# Altium integrated library NSC Switcher.IntLib: 922 symbols (part 23 of 24)
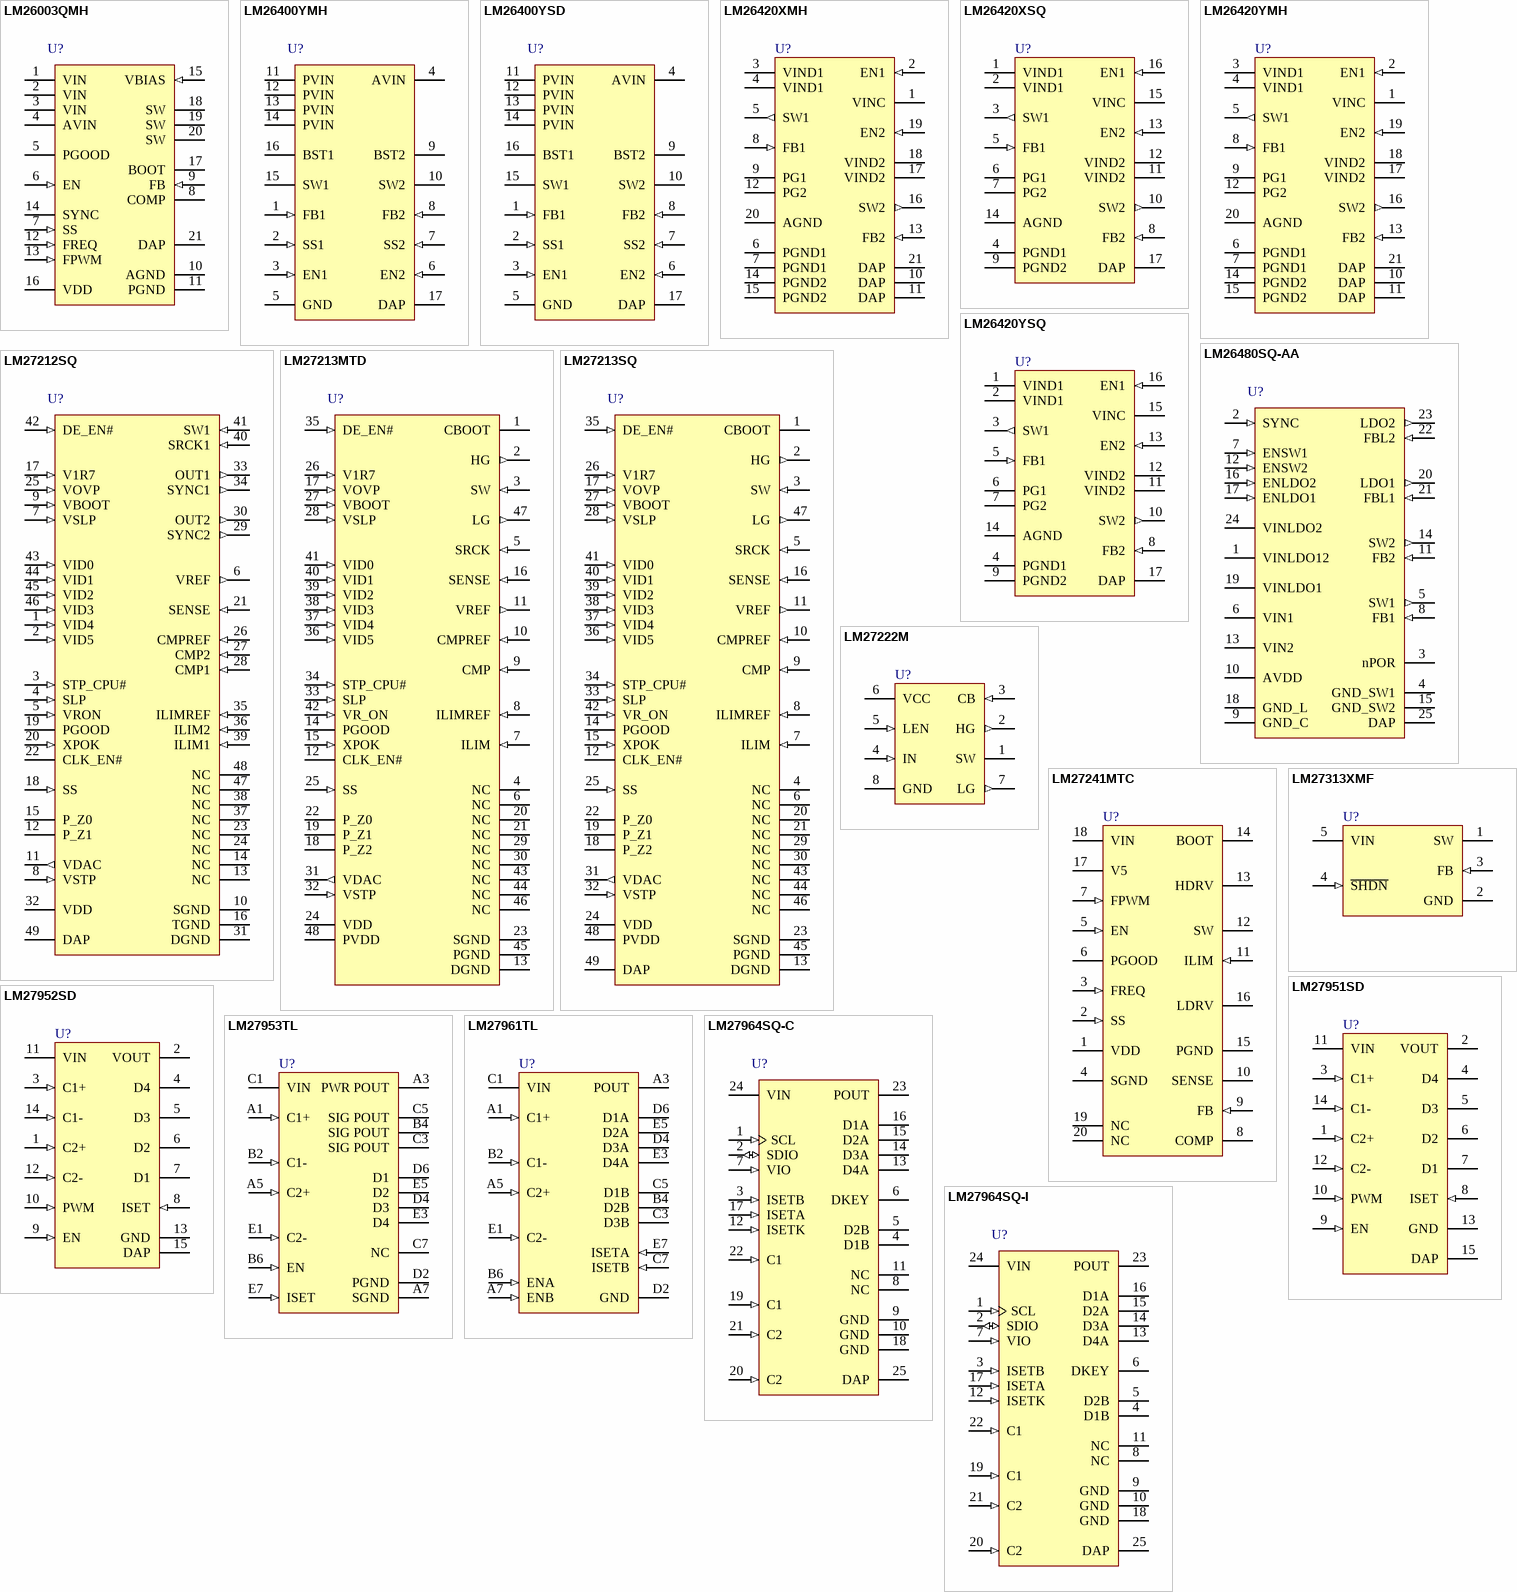
[diagram p50: symbols LM26003QMH to LM27964SQ-I]

## LM27964SQ-C
designator U?
White LED Driver System with I2C Compatible Brightness Control; PartNumber: LM27964SQ-C; Manufacturer: National Semiconductor; CompType: Switcher; PackageTopMarking: NS*UZXYTT*27964-C; FirstPublished: 4-Dec-2008; DatasheetVersion: Aug-2007; PackageVersion: revB, Aug-2003; PackageReference: SQA24A; Publisher: Altium Limited; PackageDescription: LLP, Plastic, Quad, 4 x 4 x 0.8mm Body, 24 Lead, 0.5mm Pitch, No Pullback; RoHS: Y; PinCount: 24; Code_JEDEC: MO-220-WGGD-6; ComponentLink1Description: LM27964 Datasheet; ComponentLink1URL: http://www.national.com/ds/LM/LM27964.pdf; ComponentLink2Description: LM27964 Web Page; ComponentLink2URL: http://www.national.com/pf/LM/LM27964.html; ComponentLink3Description: SQA24A Package Drawing; ComponentLink3URL: http://www.national.com/packaging/folders/sqa24a.html
footprint SQA24A (QFN, 24-Leads, Body 4x4mm, Pitch 0.5mm, NSC Recommended)
pins: 1 SCL (in), 2 SDIO (io), 3 ISETB (in), 4 D1B (oc), 5 D2B (oc), 6 DKEY (oc), 7 VIO (in), 8 NC, 9 GND (power), 10 GND (power), 11 NC, 12 ISETK (in), 13 D4A (oc), 14 D3A (oc), 15 D2A (oc), 16 D1A (oc), 17 ISETA (in), 18 GND (power), 19 C1 (in), 20 C2 (in), 21 C2 (in), 22 C1 (in), 23 POUT (power), 24 VIN (power), 25 DAP (power)

## LM27964SQ-I
designator U?
White LED Driver System with I2C Compatible Brightness Control; PartNumber: LM27964SQ-I; Manufacturer: National Semiconductor; CompType: Switcher; PackageTopMarking: NS*UZXYTT*L27964S; FirstPublished: 4-Dec-2008; DatasheetVersion: Aug-2007; PackageVersion: revB, Aug-2003; PackageReference: SQA24A; Publisher: Altium Limited; PackageDescription: LLP, Plastic, Quad, 4 x 4 x 0.8mm Body, 24 Lead, 0.5mm Pitch, No Pullback; RoHS: Y; PinCount: 24; DigiKeyPartNumber: LM27964SQ-ICT-ND; Code_JEDEC: MO-220-WGGD-6; ComponentLink1Description: LM27964 Datasheet; ComponentLink1URL: http://www.national.com/ds/LM/LM27964.pdf; ComponentLink2Description: LM27964 Web Page; ComponentLink2URL: http://www.national.com/pf/LM/LM27964.html; ComponentLink3Description: SQA24A Package Drawing; ComponentLink3URL: http://www.national.com/packaging/folders/sqa24a.html
footprint SQA24A (QFN, 24-Leads, Body 4x4mm, Pitch 0.5mm, NSC Recommended)
pins: 1 SCL (in), 2 SDIO (io), 3 ISETB (in), 4 D1B (oc), 5 D2B (oc), 6 DKEY (oc), 7 VIO (in), 8 NC, 9 GND (power), 10 GND (power), 11 NC, 12 ISETK (in), 13 D4A (oc), 14 D3A (oc), 15 D2A (oc), 16 D1A (oc), 17 ISETA (in), 18 GND (power), 19 C1 (in), 20 C2 (in), 21 C2 (in), 22 C1 (in), 23 POUT (power), 24 VIN (power), 25 DAP (power)

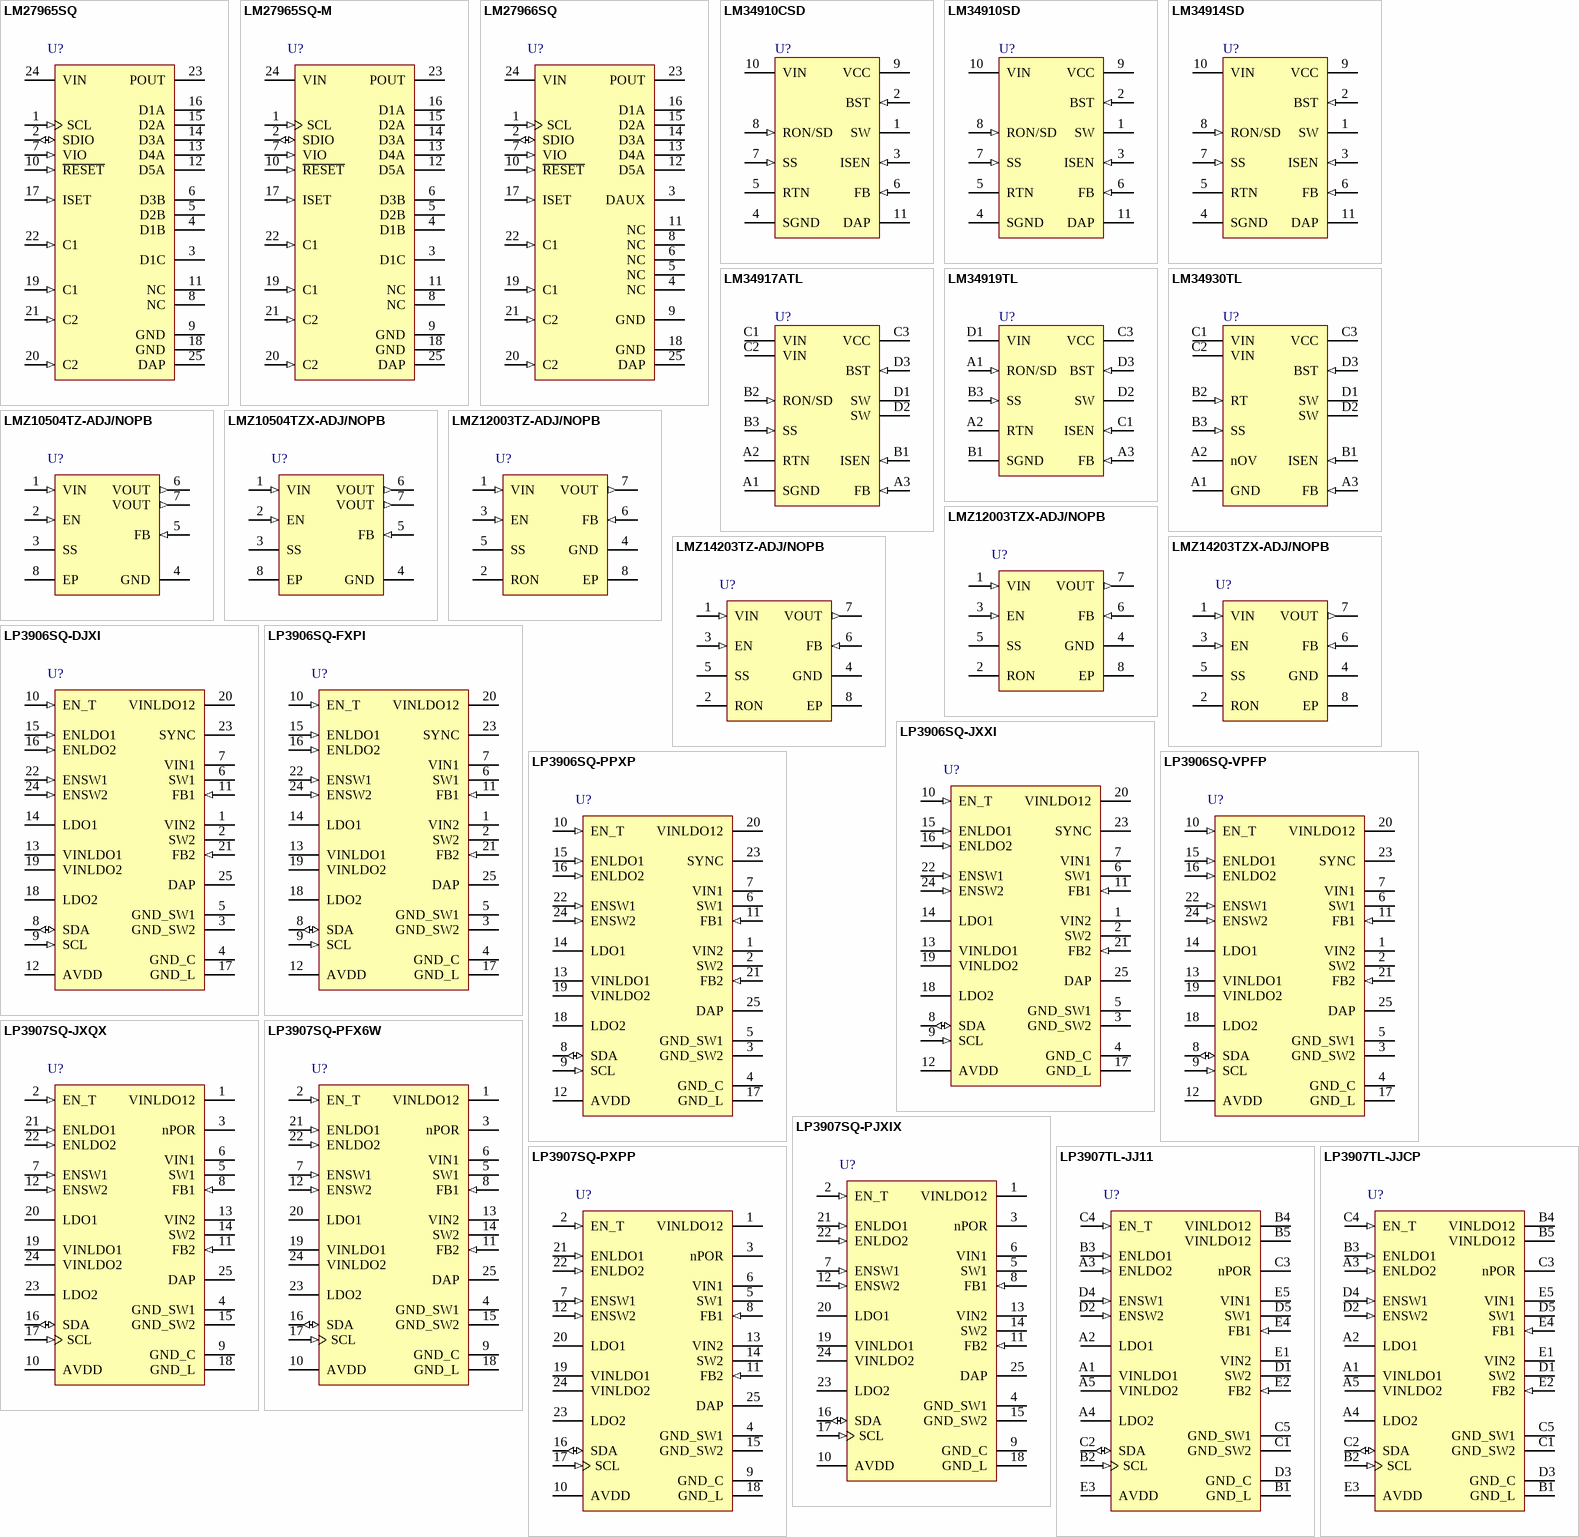
[diagram p27: symbols LM27965SQ to LP3907TL-JJCP]

## LM27965SQ
designator U?
Dual Display White LED Driver with I2C Compatible Brightness Control; PartNumber: LM27965SQ; Manufacturer: National Semiconductor; CompType: Switcher; PackageTopMarking: NS*UZXYTT*L27965S; FirstPublished: 4-Dec-2008; DatasheetVersion: Oct-2007; PackageVersion: revB, Aug-2003; PackageReference: SQA24A; Publisher: Altium Limited; PackageDescription: LLP, Plastic, Quad, 4 x 4 x 0.8mm Body, 24 Lead, 0.5mm Pitch, No Pullback; RoHS: Y; PinCount: 24; DigiKeyPartNumber: LM27965SQEV-ND; Code_JEDEC: MO-220-WGGD-6; ComponentLink1Description: LM27965 Datasheet; ComponentLink1URL: http://www.national.com/ds/LM/LM27965.pdf; ComponentLink2Description: LM27965 Web Page; ComponentLink2URL: http://www.national.com/pf/LM/LM27965.html; ComponentLink3Description: SQA24A Package Drawing; ComponentLink3URL: http://www.national.com/packaging/folders/sqa24a.html
footprint SQA24A (QFN, 24-Leads, Body 4x4mm, Pitch 0.5mm, NSC Recommended)
pins: 1 SCL (in), 2 SDIO (io), 3 D1C (oc), 4 D1B (oc), 5 D2B (oc), 6 D3B (oc), 7 VIO (in), 8 NC, 9 GND (power), 10 ~{RESET} (in), 11 NC, 12 D5A (oc), 13 D4A (oc), 14 D3A (oc), 15 D2A (oc), 16 D1A (oc), 17 ISET (in), 18 GND (power), 19 C1 (in), 20 C2 (in), 21 C2 (in), 22 C1 (in), 23 POUT (power), 24 VIN (power), 25 DAP (power)

## LM27965SQ-M
designator U?
Dual Display White LED Driver with I2C Compatible Brightness Control; PartNumber: LM27965SQ-M; Manufacturer: National Semiconductor; CompType: Switcher; PackageTopMarking: NS*UZXYTT*27965M; FirstPublished: 4-Dec-2008; DatasheetVersion: Oct-2007; PackageVersion: revB, Aug-2003; PackageReference: SQA24A; Publisher: Altium Limited; PackageDescription: LLP, Plastic, Quad, 4 x 4 x 0.8mm Body, 24 Lead, 0.5mm Pitch, No Pullback; RoHS: Y; PinCount: 24; DigiKeyPartNumber: LM27965SQ-MCT-ND; Code_JEDEC: MO-220-WGGD-6; ComponentLink1Description: LM27965 Datasheet; ComponentLink1URL: http://www.national.com/ds/LM/LM27965.pdf; ComponentLink2Description: LM27965 Web Page; ComponentLink2URL: http://www.national.com/pf/LM/LM27965.html; ComponentLink3Description: SQA24A Package Drawing; ComponentLink3URL: http://www.national.com/packaging/folders/sqa24a.html
footprint SQA24A (QFN, 24-Leads, Body 4x4mm, Pitch 0.5mm, NSC Recommended)
pins: 1 SCL (in), 2 SDIO (io), 3 D1C (oc), 4 D1B (oc), 5 D2B (oc), 6 D3B (oc), 7 VIO (in), 8 NC, 9 GND (power), 10 ~{RESET} (in), 11 NC, 12 D5A (oc), 13 D4A (oc), 14 D3A (oc), 15 D2A (oc), 16 D1A (oc), 17 ISET (in), 18 GND (power), 19 C1 (in), 20 C2 (in), 21 C2 (in), 22 C1 (in), 23 POUT (power), 24 VIN (power), 25 DAP (power)

## LM27966SQ
designator U?
White LED Driver with I2C Compatible Interface; PartNumber: LM27966SQ; Manufacturer: National Semiconductor; CompType: Switcher; PackageTopMarking: NS*UZXYTT*L27966S; FirstPublished: 4-Dec-2008; DatasheetVersion: Aug-2006; PackageVersion: revB, Aug-2003; PackageReference: SQA24A; Publisher: Altium Limited; PackageDescription: LLP, Plastic, Quad, 4 x 4 x 0.8mm Body, 24 Lead, 0.5mm Pitch, No Pullback; RoHS: Y; PinCount: 24; DigiKeyPartNumber: LM27966SQCT-ND; Code_JEDEC: MO-220-WGGD-6; ComponentLink1Description: LM27966 Datasheet; ComponentLink1URL: http://www.national.com/ds/LM/LM27966.pdf; ComponentLink2Description: LM27966 Web Page; ComponentLink2URL: http://www.national.com/pf/LM/LM27966.html; ComponentLink3Description: SQA24A Package Drawing; ComponentLink3URL: http://www.national.com/packaging/folders/sqa24a.html
footprint SQA24A (QFN, 24-Leads, Body 4x4mm, Pitch 0.5mm, NSC Recommended)
pins: 1 SCL (in), 2 SDIO (io), 3 DAUX (oc), 4 NC, 5 NC, 6 NC, 7 VIO (in), 8 NC, 9 GND (power), 10 ~{RESET} (in), 11 NC, 12 D5A (oc), 13 D4A (oc), 14 D3A (oc), 15 D2A (oc), 16 D1A (oc), 17 ISET (in), 18 GND (power), 19 C1 (in), 20 C2 (in), 21 C2 (in), 22 C1 (in), 23 POUT (power), 24 VIN (power), 25 DAP (power)

## LM34910CSD
designator U?
High Voltage (50V, 1.25A) Step Down Switching Regulator; PartNumber: LM34910CSD; Manufacturer: National Semiconductor; CompType: Switcher; PackageTopMarking: NS*UZXYTT*L34910C; FirstPublished: 4-Dec-2008; DatasheetVersion: Aug-2007; PackageVersion: revA, May-2003; PackageReference: SDC10A; Publisher: Altium Limited; PackageDescription: LLP, Plastic, Dual, 4 x 4 x 0.8mm Body, 10 Lead, 0.8mm Pitch, No Pullback; RoHS: Y; PinCount: 10; DigiKeyPartNumber: LM34910CSDCT-ND; ComponentLink1Description: LM34910C Datasheet; ComponentLink1URL: http://www.national.com/ds/LM/LM34910C.pdf; ComponentLink2Description: LM34910C Web Page; ComponentLink2URL: http://www.national.com/pf/LM/LM34910C.html; ComponentLink3Description: SDC10A Package Drawing; ComponentLink3URL: http://www.national.com/packaging/folders/sdc10a.html
footprint SDC10A (SON, 10-Leads, Body 4x4 mm, Pitch 0.8mm, NSC Recommended)
pins: 1 SW (power), 2 BST (in), 3 ISEN (in), 4 SGND (power), 5 RTN (power), 6 FB (in), 7 SS (in), 8 RON/SD (in), 9 VCC (power), 10 VIN (power), 11 DAP (power)

## LM34910SD
designator U?
High Voltage (40V, 1.25A) Step Down Switching Regulator; PartNumber: LM34910SD; Manufacturer: National Semiconductor; CompType: Switcher; PackageTopMarking: NS*UZXYTT*34910SD; FirstPublished: 4-Dec-2008; DatasheetVersion: Feb-2005; PackageVersion: revA, May-2003; PackageReference: SDC10A; Publisher: Altium Limited; PackageDescription: LLP, Plastic, Dual, 4 x 4 x 0.8mm Body, 10 Lead, 0.8mm Pitch, No Pullback; RoHS: O; PinCount: 10; DigiKeyPartNumber: LM34910SDCT-ND; ComponentLink1Description: LM34910 Datasheet; ComponentLink1URL: http://www.national.com/ds/LM/LM34910.pdf; ComponentLink2Description: LM34910 Web Page; ComponentLink2URL: http://www.national.com/pf/LM/LM34910.html; ComponentLink3Description: SDC10A Package Drawing; ComponentLink3URL: http://www.national.com/packaging/folders/sdc10a.html
footprint SDC10A (SON, 10-Leads, Body 4x4 mm, Pitch 0.8mm, NSC Recommended)
pins: 1 SW (power), 2 BST (in), 3 ISEN (in), 4 SGND (power), 5 RTN (power), 6 FB (in), 7 SS (in), 8 RON/SD (in), 9 VCC (power), 10 VIN (power), 11 DAP (power)

## LM34914SD
designator U?
Ultra Small 1.25A Step-Down Switching Regulator with Intelligent Current Limit; PartNumber: LM34914SD; Manufacturer: National Semiconductor; CompType: Switcher; PackageTopMarking: ZXYTT*34914; FirstPublished: 4-Dec-2008; DatasheetVersion: Dec-2007; PackageVersion: revA, Oct-2003; PackageReference: SDA10A; Publisher: Altium Limited; PackageDescription: LLP, Plastic, Dual, 3 x 3 x 0.8mm Body, 10 Lead, 0.5mm Pitch, No Pullback; RoHS: Y; PinCount: 10; DigiKeyPartNumber: LM34914SDCT-ND; ComponentLink1Description: LM34914 Datasheet; ComponentLink1URL: http://www.national.com/ds/LM/LM34914.pdf; ComponentLink2Description: LM34914 Web Page; ComponentLink2URL: http://www.national.com/pf/LM/LM34914.html; ComponentLink3Description: SDA10A Package Drawing; ComponentLink3URL: http://www.national.com/packaging/folders/sda10a.html
footprint SDA10A (SON, 10-Leads, Body 3x3 mm, Pitch 0.5mm, NSC Recommended)
pins: 1 SW (power), 2 BST (in), 3 ISEN (in), 4 SGND (power), 5 RTN (power), 6 FB (in), 7 SS (in), 8 RON/SD (in), 9 VCC (power), 10 VIN (power), 11 DAP (power)

## LM34917ATL
designator U?
Ultra Small 33V, 1.25A Constant On-Time Buck Switching Regulator with Intelligent Current Limit; PartNumber: LM34917ATL; Manufacturer: National Semiconductor; CompType: Switcher; PackageTopMarking: XYTT*I SRHA; FirstPublished: 4-Dec-2008; DatasheetVersion: May-2008; PackageVersion: revC, Jan-2004; PackageReference: TLA12UNA; Publisher: Altium Limited; PackageDescription: Thin Micro SMD, 12 Bump (Large), Area Array, 0.5mm Pitch; RoHS: Y; PinCount: 12; DigiKeyPartNumber: LM34917ATL-ND; Code_JEDEC: MO-211-DE; ComponentLink1Description: LM34917A Datasheet; ComponentLink1URL: http://www.national.com/ds/LM/LM34917A.pdf; ComponentLink2Description: LM34917A Web Page; ComponentLink2URL: http://www.national.com/pf/LM/LM34917A.html; ComponentLink3Description: TLA12UNA Package Drawing; ComponentLink3URL: http://www.national.com/packaging/folders/tla12una.html
footprint TLA12UNA (Micro SMD, 12-Leads, Body 2.3x1.97mm, Pitch 0.5mm, NSC Recommended)
pins: A1 SGND (power), A2 RTN (power), A3 FB (in), B1 ISEN (in), B2 RON/SD (in), B3 SS (in), C1 VIN (power), C2 VIN (power), C3 VCC (power), D1 SW (power), D2 SW (power), D3 BST (in)

## LM34919TL
designator U?
Ultra Small 40V, 600 mA Constant On-Time Buck Switching Regulator; PartNumber: LM34919TL; Manufacturer: National Semiconductor; CompType: Switcher; PackageTopMarking: XYTT*I SRYB; FirstPublished: 4-Dec-2008; DatasheetVersion: Jun-2008; PackageVersion: revD, Mar-2004; PackageReference: TLP10A1A; Publisher: Altium Limited; PackageDescription: Thin Micro SMD, 10 Bump (Large), Periperal, 0.5mm Pitch; RoHS: Y; PinCount: 10; DigiKeyPartNumber: LM34919TLCT-ND; Code_JEDEC: MO-211-BD; ComponentLink1Description: LM34919 Datasheet; ComponentLink1URL: http://www.national.com/ds/LM/LM34919.pdf; ComponentLink2Description: LM34919 Web Page; ComponentLink2URL: http://www.national.com/pf/LM/LM34919.html; ComponentLink3Description: TLP10A1A Package Drawing; ComponentLink3URL: http://www.national.com/packaging/folders/tlp10a1a.html
footprint TLP10A1A (Micro SMD, 10-Leads, Body 1.97x1.51mm, Pitch 0.5mm, NSC Recommended)
pins: A1 RON/SD (in), A2 RTN (power), A3 FB (in), B1 SGND (power), B3 SS (in), C1 ISEN (in), C3 VCC (power), D1 VIN (power), D2 SW (power), D3 BST (in)

## LM34930TL
designator U?
Ultra Small 33V, 1A Constant On-Time Buck Switching Regulator with Intelligent Current Limit; PartNumber: LM34930TL; Manufacturer: National Semiconductor; CompType: Switcher; PackageTopMarking: XYTT*I STCB; FirstPublished: 4-Dec-2008; DatasheetVersion: Jun-2008; PackageVersion: revC, Jan-2004; PackageReference: TLA12LDA; Publisher: Altium Limited; PackageDescription: Thin Micro SMD, 12 Bump (Large), Area Array, 0.5mm Pitch; RoHS: Y; PinCount: 12; DigiKeyPartNumber: LM34930TLCT-ND; Code_JEDEC: MO-211-DE; ComponentLink1Description: LM34930 Datasheet; ComponentLink1URL: http://www.national.com/ds/LM/LM34930.pdf; ComponentLink2Description: LM34930 Web Page; ComponentLink2URL: http://www.national.com/pf/LM/LM34930.html; ComponentLink3Description: TLA12LDA Package Drawing; ComponentLink3URL: http://www.national.com/packaging/folders/tla12lda.html
footprint TLA12LDA (Micro SMD, 12-Leads, Body 2.07x1.77mm, Pitch 0.5mm, NSC Recommended)
pins: A1 GND (power), A2 nOV (oc), A3 FB (in), B1 ISEN (in), B2 RT (in), B3 SS (in), C1 VIN (power), C2 VIN (power), C3 VCC (power), D1 SW (power), D2 SW (power), D3 BST (in)

## LMZ10504TZ-ADJ/NOPB
designator U?
4A SIMPLE SWITCHER Power Module with 5.5V Maximum Input Voltage; PartNumber: LMZ10504TZ-ADJ/NOPB; Manufacturer: National Semiconductor; PackageTopMarking: NSUZXYTTE#*LMZ10504*TZ-ADJ; PowerWise: N; FirstPublished: 25-Jan-2010; DatasheetVersion: Jan-2010; PackageVersion: revC, 2009; PackageReference: TZA07A; Publisher: Altium Limited; PackageDescription: TO-PMOD-7, 10.16 x 13.77 x 4.57 mm Body, 7 Lead, 1.27mm Pitch, Surface Mount; CompType: Switcher; RoHS: Y; PinCount: 8; ComponentLink1Description: LMZ10504 Datasheet; ComponentLink1URL: http://www.national.com/ds/LM/LMZ10504.pdf; ComponentLink2Description: LMZ10504 Web Page; ComponentLink2URL: http://www.national.com/pf/LM/LMZ10504.html#Overview; ComponentLink3Description: TZA07A Package Drawing; ComponentLink3URL: http://www.national.com/packaging/folders/tza07a.html
footprint TZA07A_V (D2-PAK, 8-Leads, Body 9.9x10.2mm, Pitch 1.27mm, Lead Span 13.8mm, NSC Recommended)
pins: 1 VIN (in), 2 EN (in), 3 SS, 4 GND (power), 5 FB (in), 6 VOUT (out), 7 VOUT (out), 8 EP

## LMZ10504TZX-ADJ/NOPB
designator U?
4A SIMPLE SWITCHER Power Module with 5.5V Maximum Input Voltage; PartNumber: LMZ10504TZX-ADJ/NOPB; Manufacturer: National Semiconductor; PackageTopMarking: NSUZXYTTE#*LMZ10504*TZ-ADJ; PowerWise: N; FirstPublished: 25-Jan-2010; DatasheetVersion: Jan-2010; PackageVersion: revC, 2009; PackageReference: TZA07A; Publisher: Altium Limited; PackageDescription: TO-PMOD-7, 10.16 x 13.77 x 4.57 mm Body, 7 Lead, 1.27mm Pitch, Surface Mount; CompType: Switcher; RoHS: Y; PinCount: 8; ComponentLink1Description: LMZ10504 Datasheet; ComponentLink1URL: http://www.national.com/ds/LM/LMZ10504.pdf; ComponentLink2Description: LMZ10504 Web Page; ComponentLink2URL: http://www.national.com/pf/LM/LMZ10504.html#Overview; ComponentLink3Description: TZA07A Package Drawing; ComponentLink3URL: http://www.national.com/packaging/folders/tza07a.html
footprint TZA07A_V (D2-PAK, 8-Leads, Body 9.9x10.2mm, Pitch 1.27mm, Lead Span 13.8mm, NSC Recommended)
pins: 1 VIN (in), 2 EN (in), 3 SS, 4 GND (power), 5 FB (in), 6 VOUT (out), 7 VOUT (out), 8 EP

## LMZ12003TZ-ADJ/NOPB
designator U?
3A SIMPLE SWITCHER Power Module with 20V Maximum Input Voltage; PartNumber: LMZ12003TZ-ADJ/NOPB; Manufacturer: National Semiconductor; PackageTopMarking: NSUZXYTTE#*LMZ12003*TZ-ADJ; PowerWise: N; FirstPublished: 25-Jan-2010; DatasheetVersion: Jan-2010; PackageVersion: revC, 2009; PackageReference: TZA07A; Publisher: Altium Limited; PackageDescription: TO-PMOD-7, 10.16 x 13.77 x 4.57 mm Body, 7 Lead, 1.27mm Pitch, Surface Mount; CompType: Switcher; RoHS: Y; PinCount: 8; ComponentLink1Description: LMZ12003 Datasheet; ComponentLink1URL: http://www.national.com/ds/LM/LMZ12003.pdf; ComponentLink2Description: LMZ12003 Web Page; ComponentLink2URL: http://www.national.com/pf/LM/LMZ12003.html#Overview; ComponentLink3Description: TZA07A Package Drawing; ComponentLink3URL: http://www.national.com/packaging/folders/tza07a.html
footprint TZA07A_V (D2-PAK, 8-Leads, Body 9.9x10.2mm, Pitch 1.27mm, Lead Span 13.8mm, NSC Recommended)
pins: 1 VIN (in), 2 RON, 3 EN (in), 4 GND (power), 5 SS, 6 FB (in), 7 VOUT (out), 8 EP

## LMZ12003TZX-ADJ/NOPB
designator U?
3A SIMPLE SWITCHER Power Module with 20V Maximum Input Voltage; PartNumber: LMZ12003TZX-ADJ/NOPB; Manufacturer: National Semiconductor; PackageTopMarking: NSUZXYTTE#*LMZ12003*TZ-ADJ; PowerWise: N; FirstPublished: 25-Jan-2010; DatasheetVersion: Jan-2010; PackageVersion: revC, 2009; PackageReference: TZA07A; Publisher: Altium Limited; PackageDescription: TO-PMOD-7, 10.16 x 13.77 x 4.57 mm Body, 7 Lead, 1.27mm Pitch, Surface Mount; CompType: Switcher; RoHS: Y; PinCount: 8; ComponentLink1Description: LMZ12003 Datasheet; ComponentLink1URL: http://www.national.com/ds/LM/LMZ12003.pdf; ComponentLink2Description: LMZ12003 Web Page; ComponentLink2URL: http://www.national.com/pf/LM/LMZ12003.html#Overview; ComponentLink3Description: TZA07A Package Drawing; ComponentLink3URL: http://www.national.com/packaging/folders/tza07a.html
footprint TZA07A_V (D2-PAK, 8-Leads, Body 9.9x10.2mm, Pitch 1.27mm, Lead Span 13.8mm, NSC Recommended)
pins: 1 VIN (in), 2 RON, 3 EN (in), 4 GND (power), 5 SS, 6 FB (in), 7 VOUT (out), 8 EP

## LMZ14203TZ-ADJ/NOPB
designator U?
3A SIMPLE SWITCHER Power Module with 42V Maximum Input Voltage; PartNumber: LMZ14203TZ-ADJ/NOPB; Manufacturer: National Semiconductor; PackageTopMarking: NSUZXYTTE#*LMZ14203*TZ-ADJ; PowerWise: N; FirstPublished: 25-Jan-2010; DatasheetVersion: Jan-2010; PackageVersion: revC, 2009; PackageReference: TZA07A; Publisher: Altium Limited; PackageDescription: TO-PMOD-7, 10.16 x 13.77 x 4.57 mm Body, 7 Lead, 1.27mm Pitch, Surface Mount; CompType: Switcher; RoHS: Y; PinCount: 8; ComponentLink1Description: LMZ14203 Datasheet; ComponentLink1URL: http://www.national.com/ds/LM/LMZ14203.pdf; ComponentLink2Description: LMZ14203 Web Page; ComponentLink2URL: http://www.national.com/pf/LM/LMZ14203.html#Overview; ComponentLink3Description: TZA07A Package Drawing; ComponentLink3URL: http://www.national.com/packaging/folders/tza07a.html
footprint TZA07A_V (D2-PAK, 8-Leads, Body 9.9x10.2mm, Pitch 1.27mm, Lead Span 13.8mm, NSC Recommended)
pins: 1 VIN (in), 2 RON, 3 EN (in), 4 GND (power), 5 SS, 6 FB (in), 7 VOUT (out), 8 EP

## LMZ14203TZX-ADJ/NOPB
designator U?
3A SIMPLE SWITCHER Power Module with 42V Maximum Input Voltage; PartNumber: LMZ14203TZX-ADJ/NOPB; Manufacturer: National Semiconductor; PackageTopMarking: NSUZXYTTE#*LMZ14203*TZ-ADJ; PowerWise: N; FirstPublished: 25-Jan-2010; DatasheetVersion: Jan-2010; PackageVersion: revC, 2009; PackageReference: TZA07A; Publisher: Altium Limited; PackageDescription: TO-PMOD-7, 10.16 x 13.77 x 4.57 mm Body, 7 Lead, 1.27mm Pitch, Surface Mount; CompType: Switcher; RoHS: Y; PinCount: 8; ComponentLink1Description: LMZ14203 Datasheet; ComponentLink1URL: http://www.national.com/ds/LM/LMZ14203.pdf; ComponentLink2Description: LMZ14203 Web Page; ComponentLink2URL: http://www.national.com/pf/LM/LMZ14203.html#Overview; ComponentLink3Description: TZA07A Package Drawing; ComponentLink3URL: http://www.national.com/packaging/folders/tza07a.html
footprint TZA07A_V (D2-PAK, 8-Leads, Body 9.9x10.2mm, Pitch 1.27mm, Lead Span 13.8mm, NSC Recommended)
pins: 1 VIN (in), 2 RON, 3 EN (in), 4 GND (power), 5 SS, 6 FB (in), 7 VOUT (out), 8 EP

## LP3906SQ-DJXI
designator U?
Dual High-Current Step-Down DC/DC and Dual Linear Regulator with I2C Compatible Interface; PartNumber: LP3906SQ-DJXI; Manufacturer: National Semiconductor; CompType: Switcher; PackageTopMarking: NS*UZXYTT*06-DJXI; PowerWise: Y; FirstPublished: 4-Dec-2008; DatasheetVersion: Aug-2009; PackageVersion: revA, Oct-2003; PackageReference: SQA24B; Publisher: Altium Limited; PackageDescription: LLP, Plastic, Quad, 5 x 4 x 0.8mm Body, 24 Lead, 0.5mm Pitch, No Pullback; RoHS: Y; PinCount: 24; DigiKeyPartNumber: LP3906SQ-DJXICT-ND; Code_JEDEC: MO-220-WGHD-1; ComponentLink1Description: LP3906 Datasheet; ComponentLink1URL: http://www.national.com/ds/LP/LP3906.pdf; ComponentLink2Description: LP3906 Web Page; ComponentLink2URL: http://www.national.com/pf/LP/LP3906.html; ComponentLink3Description: SQA24B Package Drawing; ComponentLink3URL: http://www.national.com/packaging/folders/sqa24b.html
footprint SQA24B (QFN, 24-Leads, Body 5x4mm, Pitch 0.5mm, NSC Recommended)
pins: 1 VIN2 (power), 2 SW2 (power), 3 GND_SW2 (power), 4 GND_C (power), 5 GND_SW1 (power), 6 SW1 (power), 7 VIN1 (power), 8 SDA (io), 9 SCL (in), 10 EN_T (in), 11 FB1 (in), 12 AVDD (power), 13 VINLDO1 (power), 14 LDO1 (power), 15 ENLDO1 (in), 16 ENLDO2 (in), 17 GND_L (power), 18 LDO2 (power), 19 VINLDO2 (power), 20 VINLDO12 (power), 21 FB2 (in), 22 ENSW1 (in), 23 SYNC, 24 ENSW2 (in), 25 DAP (power)

## LP3906SQ-FXPI
designator U?
Dual High-Current Step-Down DC/DC and Dual Linear Regulator with I2C Compatible Interface; PartNumber: LP3906SQ-FXPI; Manufacturer: National Semiconductor; CompType: Switcher; PackageTopMarking: NS*UZXYTT*06-FXPI; PowerWise: N; FirstPublished: 9-Oct-2009; DatasheetVersion: Aug-2009; PackageVersion: revA, Oct-2003; PackageReference: SQA24B; Publisher: Altium Limited; PackageDescription: LLP, Plastic, Quad, 5 x 4 x 0.8mm Body, 24 Lead, 0.5mm Pitch, No Pullback; RoHS: Y; PinCount: 24; Code_JEDEC: MO-220-WGHD-1; ComponentLink1Description: LP3906 Datasheet; ComponentLink1URL: http://www.national.com/ds/LP/LP3906.pdf; ComponentLink2Description: LP3906 Web Page; ComponentLink2URL: http://www.national.com/pf/LP/LP3906.html; ComponentLink3Description: SQA24B Package Page; ComponentLink3URL: http://www.national.com/packaging/folders/sqa24b.html
footprint SQA24B (QFN, 24-Leads, Body 5x4mm, Pitch 0.5mm, NSC Recommended)
pins: 1 VIN2 (power), 2 SW2 (power), 3 GND_SW2 (power), 4 GND_C (power), 5 GND_SW1 (power), 6 SW1 (power), 7 VIN1 (power), 8 SDA (io), 9 SCL (in), 10 EN_T (in), 11 FB1 (in), 12 AVDD (power), 13 VINLDO1 (power), 14 LDO1 (power), 15 ENLDO1 (in), 16 ENLDO2 (in), 17 GND_L (power), 18 LDO2 (power), 19 VINLDO2 (power), 20 VINLDO12 (power), 21 FB2 (in), 22 ENSW1 (in), 23 SYNC, 24 ENSW2 (in), 25 DAP (power)

## LP3906SQ-JXXI
designator U?
Dual High-Current Step-Down DC/DC and Dual Linear Regulator with I2C Compatible Interface; PartNumber: LP3906SQ-JXXI; Manufacturer: National Semiconductor; CompType: Switcher; PackageTopMarking: NS*UZXYTT*06-JXXI; PowerWise: Y; FirstPublished: 4-Dec-2008; DatasheetVersion: Aug-2009; PackageVersion: revA, Oct-2003; PackageReference: SQA24B; Publisher: Altium Limited; PackageDescription: LLP, Plastic, Quad, 5 x 4 x 0.8mm Body, 24 Lead, 0.5mm Pitch, No Pullback; RoHS: Y; PinCount: 24; DigiKeyPartNumber: LP3906SQ-JXXICT-ND; Code_JEDEC: MO-220-WGHD-1; ComponentLink1Description: LP3906 Datasheet; ComponentLink1URL: http://www.national.com/ds/LP/LP3906.pdf; ComponentLink2Description: LP3906 Web Page; ComponentLink2URL: http://www.national.com/pf/LP/LP3906.html; ComponentLink3Description: SQA24B Package Drawing; ComponentLink3URL: http://www.national.com/packaging/folders/sqa24b.html
footprint SQA24B (QFN, 24-Leads, Body 5x4mm, Pitch 0.5mm, NSC Recommended)
pins: 1 VIN2 (power), 2 SW2 (power), 3 GND_SW2 (power), 4 GND_C (power), 5 GND_SW1 (power), 6 SW1 (power), 7 VIN1 (power), 8 SDA (io), 9 SCL (in), 10 EN_T (in), 11 FB1 (in), 12 AVDD (power), 13 VINLDO1 (power), 14 LDO1 (power), 15 ENLDO1 (in), 16 ENLDO2 (in), 17 GND_L (power), 18 LDO2 (power), 19 VINLDO2 (power), 20 VINLDO12 (power), 21 FB2 (in), 22 ENSW1 (in), 23 SYNC, 24 ENSW2 (in), 25 DAP (power)

## LP3906SQ-PPXP
designator U?
Dual High-Current Step-Down DC/DC and Dual Linear Regulator with I2C Compatible Interface; PartNumber: LP3906SQ-PPXP; Manufacturer: National Semiconductor; CompType: Switcher; PackageTopMarking: NS*UZXYTT*06-PPXP; PowerWise: Y; FirstPublished: 4-Dec-2008; DatasheetVersion: Aug-2009; PackageVersion: revA, Oct-2003; PackageReference: SQA24B; Publisher: Altium Limited; PackageDescription: LLP, Plastic, Quad, 5 x 4 x 0.8mm Body, 24 Lead, 0.5mm Pitch, No Pullback; RoHS: Y; PinCount: 24; DigiKeyPartNumber: LP3906SQ-PPXPCT-ND; Code_JEDEC: MO-220-WGHD-1; ComponentLink1Description: LP3906 Datasheet; ComponentLink1URL: http://www.national.com/ds/LP/LP3906.pdf; ComponentLink2Description: LP3906 Web Page; ComponentLink2URL: http://www.national.com/pf/LP/LP3906.html; ComponentLink3Description: SQA24B Package Drawing; ComponentLink3URL: http://www.national.com/packaging/folders/sqa24b.html
footprint SQA24B (QFN, 24-Leads, Body 5x4mm, Pitch 0.5mm, NSC Recommended)
pins: 1 VIN2 (power), 2 SW2 (power), 3 GND_SW2 (power), 4 GND_C (power), 5 GND_SW1 (power), 6 SW1 (power), 7 VIN1 (power), 8 SDA (io), 9 SCL (in), 10 EN_T (in), 11 FB1 (in), 12 AVDD (power), 13 VINLDO1 (power), 14 LDO1 (power), 15 ENLDO1 (in), 16 ENLDO2 (in), 17 GND_L (power), 18 LDO2 (power), 19 VINLDO2 (power), 20 VINLDO12 (power), 21 FB2 (in), 22 ENSW1 (in), 23 SYNC, 24 ENSW2 (in), 25 DAP (power)

## LP3906SQ-VPFP
designator U?
Dual High-Current Step-Down DC/DC and Dual Linear Regulator with I2C Compatible Interface; PartNumber: LP3906SQ-VPFP; Manufacturer: National Semiconductor; CompType: Switcher; PackageTopMarking: NS*UZXYTT*06-VPFP; PowerWise: Y; FirstPublished: 4-Dec-2008; DatasheetVersion: Aug-2009; PackageVersion: revA, Oct-2003; PackageReference: SQA24B; Publisher: Altium Limited; PackageDescription: LLP, Plastic, Quad, 5 x 4 x 0.8mm Body, 24 Lead, 0.5mm Pitch, No Pullback; RoHS: Y; PinCount: 24; DigiKeyPartNumber: LP3906SQ-VPFPCT-ND; Code_JEDEC: MO-220-WGHD-1; ComponentLink1Description: LP3906 Datasheet; ComponentLink1URL: http://www.national.com/ds/LP/LP3906.pdf; ComponentLink2Description: LP3906 Web Page; ComponentLink2URL: http://www.national.com/pf/LP/LP3906.html; ComponentLink3Description: SQA24B Package Drawing; ComponentLink3URL: http://www.national.com/packaging/folders/sqa24b.html
footprint SQA24B (QFN, 24-Leads, Body 5x4mm, Pitch 0.5mm, NSC Recommended)
pins: 1 VIN2 (power), 2 SW2 (power), 3 GND_SW2 (power), 4 GND_C (power), 5 GND_SW1 (power), 6 SW1 (power), 7 VIN1 (power), 8 SDA (io), 9 SCL (in), 10 EN_T (in), 11 FB1 (in), 12 AVDD (power), 13 VINLDO1 (power), 14 LDO1 (power), 15 ENLDO1 (in), 16 ENLDO2 (in), 17 GND_L (power), 18 LDO2 (power), 19 VINLDO2 (power), 20 VINLDO12 (power), 21 FB2 (in), 22 ENSW1 (in), 23 SYNC, 24 ENSW2 (in), 25 DAP (power)

## LP3907SQ-JXQX
designator U?
Dual High-Current Step-Down DC/DC and Dual Linear Regulator with I2C Compatible Interface; PartNumber: LP3907SQ-JXQX; Manufacturer: National Semiconductor; CompType: Switcher; PackageTopMarking: NS*UZXYTT*07-JXQX; PowerWise: Y; FirstPublished: 4-Dec-2008; DatasheetVersion: Jul-2009; PackageVersion: revB, Aug-2003; PackageReference: SQA24A; Publisher: Altium Limited; PackageDescription: LLP, Plastic, Quad, 4 x 4 x 0.8mm Body, 24 Lead, 0.5mm Pitch, No Pullback; RoHS: Y; PinCount: 24; DigiKeyPartNumber: LP3907SQ-JXQXCT-ND; Code_JEDEC: MO-220-WGGD-6; ComponentLink1Description: LP3907 Datasheet; ComponentLink1URL: http://www.national.com/ds/LP/LP3907.pdf; ComponentLink2Description: LP3907 Web Page; ComponentLink2URL: http://www.national.com/pf/LP/LP3907.html; ComponentLink3Description: SQA24A Package Drawing; ComponentLink3URL: http://www.national.com/packaging/folders/sqa24a.html
footprint SQA24A (QFN, 24-Leads, Body 4x4mm, Pitch 0.5mm, NSC Recommended)
pins: 1 VINLDO12 (power), 2 EN_T (in), 3 nPOR (oc), 4 GND_SW1 (power), 5 SW1 (power), 6 VIN1 (power), 7 ENSW1 (in), 8 FB1 (in), 9 GND_C (power), 10 AVDD (power), 11 FB2 (in), 12 ENSW2 (in), 13 VIN2 (power), 14 SW2 (power), 15 GND_SW2 (power), 16 SDA (io), 17 SCL (in), 18 GND_L (power), 19 VINLDO1 (power), 20 LDO1 (power), 21 ENLDO1 (in), 22 ENLDO2 (in), 23 LDO2 (power), 24 VINLDO2 (power), 25 DAP (power)

## LP3907SQ-PFX6W
designator U?
Dual High-Current Step-Down DC/DC and Dual Linear Regulator with I2C Compatible Interface; PartNumber: LP3907SQ-PFX6W; Manufacturer: National Semiconductor; CompType: Switcher; PackageTopMarking: NS*UZXYTT*7PFX6W; PowerWise: N; FirstPublished: 9-Oct-2009; DatasheetVersion: Jul-2009; PackageVersion: revB, Aug-2003; PackageReference: SQA24A; Publisher: Altium Limited; PackageDescription: LLP, Plastic, Quad, 4 x 4 x 0.8mm Body, 24 Lead, 0.5mm Pitch, No Pullback; RoHS: Y; PinCount: 24; Code_JEDEC: MO-220-WGGD-6; ComponentLink1Description: LP3907 Datasheet; ComponentLink1URL: http://www.national.com/ds/LP/LP3907.pdf; ComponentLink2Description: LP3907 Web Page; ComponentLink2URL: http://www.national.com/pf/LP/LP3907.html; ComponentLink3Description: SQA24A Package Page; ComponentLink3URL: http://www.national.com/packaging/folders/sqa24a.html
footprint SQA24A (QFN, 24-Leads, Body 4x4mm, Pitch 0.5mm, NSC Recommended)
pins: 1 VINLDO12 (power), 2 EN_T (in), 3 nPOR (oc), 4 GND_SW1 (power), 5 SW1 (power), 6 VIN1 (power), 7 ENSW1 (in), 8 FB1 (in), 9 GND_C (power), 10 AVDD (power), 11 FB2 (in), 12 ENSW2 (in), 13 VIN2 (power), 14 SW2 (power), 15 GND_SW2 (power), 16 SDA (io), 17 SCL (in), 18 GND_L (power), 19 VINLDO1 (power), 20 LDO1 (power), 21 ENLDO1 (in), 22 ENLDO2 (in), 23 LDO2 (power), 24 VINLDO2 (power), 25 DAP (power)

## LP3907SQ-PJXIX
designator U?
Dual High-Current Step-Down DC/DC and Dual Linear Regulator with I2C Compatible Interface; PartNumber: LP3907SQ-PJXIX; Manufacturer: National Semiconductor; CompType: Switcher; PackageTopMarking: NS*UZXYTT*07PJXIX; PowerWise: N; FirstPublished: 4-Dec-2008; DatasheetVersion: Jul-2009; PackageVersion: revB, Aug-2003; PackageReference: SQA24A; Publisher: Altium Limited; PackageDescription: LLP, Plastic, Quad, 4 x 4 x 0.8mm Body, 24 Lead, 0.5mm Pitch, No Pullback; RoHS: Y; PinCount: 24; Code_JEDEC: MO-220-WGGD-6; ComponentLink1Description: LP3907 Datasheet; ComponentLink1URL: http://www.national.com/ds/LP/LP3907.pdf; ComponentLink2Description: LP3907 Web Page; ComponentLink2URL: http://www.national.com/pf/LP/LP3907.html; ComponentLink3Description: SQA24A Package Drawing; ComponentLink3URL: http://www.national.com/packaging/folders/sqa24a.html
footprint SQA24A (QFN, 24-Leads, Body 4x4mm, Pitch 0.5mm, NSC Recommended)
pins: 1 VINLDO12 (power), 2 EN_T (in), 3 nPOR (oc), 4 GND_SW1 (power), 5 SW1 (power), 6 VIN1 (power), 7 ENSW1 (in), 8 FB1 (in), 9 GND_C (power), 10 AVDD (power), 11 FB2 (in), 12 ENSW2 (in), 13 VIN2 (power), 14 SW2 (power), 15 GND_SW2 (power), 16 SDA (io), 17 SCL (in), 18 GND_L (power), 19 VINLDO1 (power), 20 LDO1 (power), 21 ENLDO1 (in), 22 ENLDO2 (in), 23 LDO2 (power), 24 VINLDO2 (power), 25 DAP (power)

## LP3907SQ-PXPP
designator U?
Dual High-Current Step-Down DC/DC and Dual Linear Regulator with I2C Compatible Interface; PartNumber: LP3907SQ-PXPP; Manufacturer: National Semiconductor; CompType: Switcher; PackageTopMarking: NS*UZXYTT*07-PXPP; PowerWise: Y; FirstPublished: 4-Dec-2008; DatasheetVersion: Jul-2009; PackageVersion: revB, Aug-2003; PackageReference: SQA24A; Publisher: Altium Limited; PackageDescription: LLP, Plastic, Quad, 4 x 4 x 0.8mm Body, 24 Lead, 0.5mm Pitch, No Pullback; RoHS: Y; PinCount: 24; Code_JEDEC: MO-220-WGGD-6; ComponentLink1Description: LP3907 Datasheet; ComponentLink1URL: http://www.national.com/ds/LP/LP3907.pdf; ComponentLink2Description: LP3907 Web Page; ComponentLink2URL: http://www.national.com/pf/LP/LP3907.html; ComponentLink3Description: SQA24A Package Drawing; ComponentLink3URL: http://www.national.com/packaging/folders/sqa24a.html
footprint SQA24A (QFN, 24-Leads, Body 4x4mm, Pitch 0.5mm, NSC Recommended)
pins: 1 VINLDO12 (power), 2 EN_T (in), 3 nPOR (oc), 4 GND_SW1 (power), 5 SW1 (power), 6 VIN1 (power), 7 ENSW1 (in), 8 FB1 (in), 9 GND_C (power), 10 AVDD (power), 11 FB2 (in), 12 ENSW2 (in), 13 VIN2 (power), 14 SW2 (power), 15 GND_SW2 (power), 16 SDA (io), 17 SCL (in), 18 GND_L (power), 19 VINLDO1 (power), 20 LDO1 (power), 21 ENLDO1 (in), 22 ENLDO2 (in), 23 LDO2 (power), 24 VINLDO2 (power), 25 DAP (power)

## LP3907TL-JJ11
designator U?
Dual High-Current Step-Down DC/DC and Dual Linear Regulator with I2C Compatible Interface; PartNumber: LP3907TL-JJ11; Manufacturer: National Semiconductor; CompType: Switcher; PackageTopMarking: XYTT*I V013; PowerWise: N; FirstPublished: 4-Dec-2008; DatasheetVersion: Jul-2009; PackageVersion: revD, Dec-2003; PackageReference: TLA25AAA; Publisher: Altium Limited; PackageDescription: Thin Micro SMD, 25 Bump (Large), 0.5mm Pitch; RoHS: Y; PinCount: 25; Code_JEDEC: MO-211-DH; ComponentLink1Description: LP3907 Datasheet; ComponentLink1URL: http://www.national.com/ds/LP/LP3907.pdf; ComponentLink2Description: LP3907 Web Page; ComponentLink2URL: http://www.national.com/pf/LP/LP3907.html; ComponentLink3Description: TLA25AAA Package Drawing; ComponentLink3URL: http://www.national.com/packaging/folders/tla25aaa.html
footprint TLA25AAA (Micro SMD, 25-Leads, Body 2.49x2.49mm, Pitch 0.5mm, NSC Recommended)
pins: A1 VINLDO1 (power), A2 LDO1 (power), A3 ENLDO2 (in), A4 LDO2 (power), A5 VINLDO2 (power), B1 GND_L (power), B2 SCL (in), B3 ENLDO1 (in), B4 VINLDO12 (power), B5 VINLDO12 (power), C1 GND_SW2 (power), C2 SDA (io), C3 nPOR (oc), C4 EN_T (in), C5 GND_SW1 (power), D1 SW2 (power), D2 ENSW2 (in), D3 GND_C (power), D4 ENSW1 (in), D5 SW1 (power), E1 VIN2 (power), E2 FB2 (in), E3 AVDD (power), E4 FB1 (in), E5 VIN1 (power)

## LP3907TL-JJCP
designator U?
Dual High-Current Step-Down DC/DC and Dual Linear Regulator with I2C Compatible Interface; PartNumber: LP3907TL-JJCP; Manufacturer: National Semiconductor; CompType: Switcher; PackageTopMarking: XYTT*I V016; PowerWise: N; FirstPublished: 4-Dec-2008; DatasheetVersion: Jul-2009; PackageVersion: revD, Dec-2003; PackageReference: TLA25AAA; Publisher: Altium Limited; PackageDescription: Thin Micro SMD, 25 Bump (Large), 0.5mm Pitch; RoHS: Y; PinCount: 25; Code_JEDEC: MO-211-DH; ComponentLink1Description: LP3907 Datasheet; ComponentLink1URL: http://www.national.com/ds/LP/LP3907.pdf; ComponentLink2Description: LP3907 Web Page; ComponentLink2URL: http://www.national.com/pf/LP/LP3907.html; ComponentLink3Description: TLA25AAA Package Drawing; ComponentLink3URL: http://www.national.com/packaging/folders/tla25aaa.html
footprint TLA25AAA (Micro SMD, 25-Leads, Body 2.49x2.49mm, Pitch 0.5mm, NSC Recommended)
pins: A1 VINLDO1 (power), A2 LDO1 (power), A3 ENLDO2 (in), A4 LDO2 (power), A5 VINLDO2 (power), B1 GND_L (power), B2 SCL (in), B3 ENLDO1 (in), B4 VINLDO12 (power), B5 VINLDO12 (power), C1 GND_SW2 (power), C2 SDA (io), C3 nPOR (oc), C4 EN_T (in), C5 GND_SW1 (power), D1 SW2 (power), D2 ENSW2 (in), D3 GND_C (power), D4 ENSW1 (in), D5 SW1 (power), E1 VIN2 (power), E2 FB2 (in), E3 AVDD (power), E4 FB1 (in), E5 VIN1 (power)

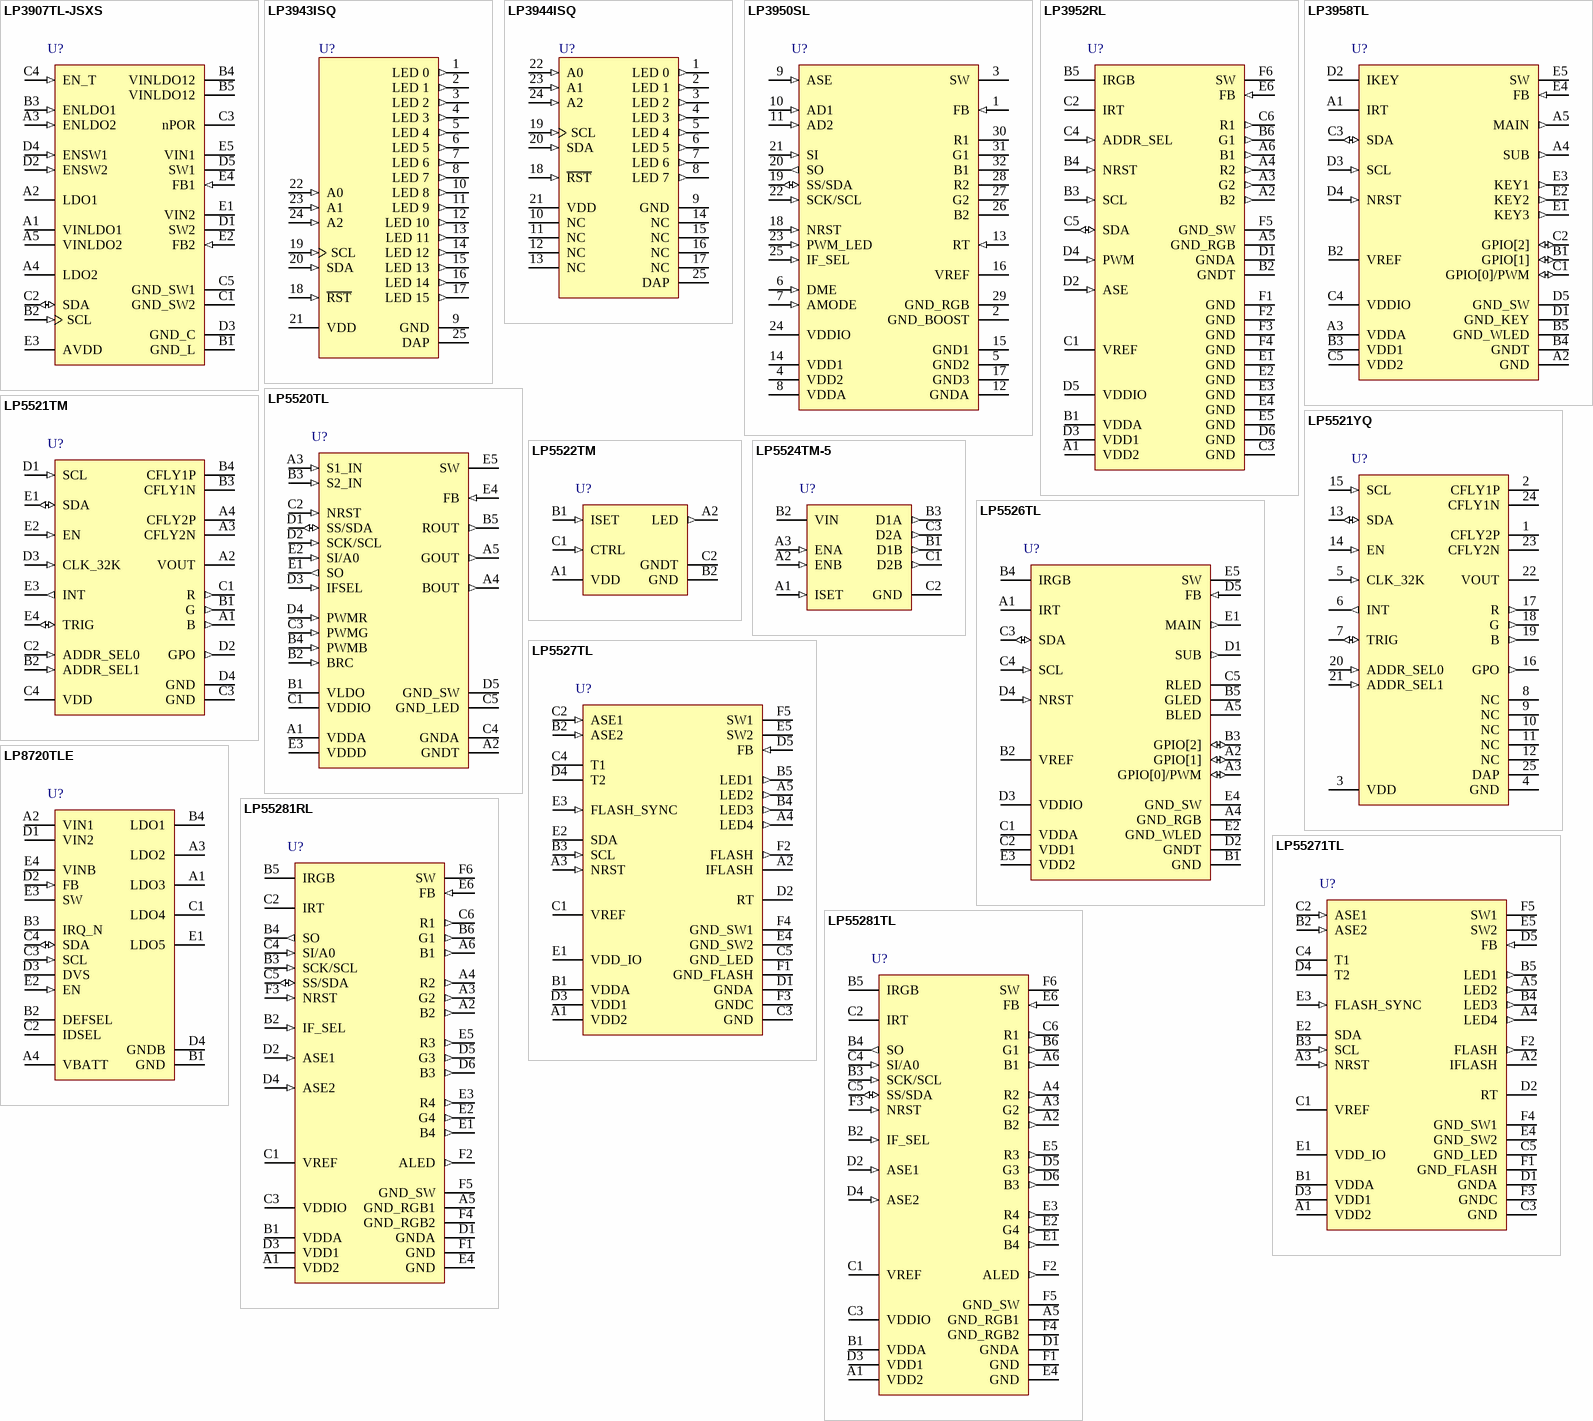
[diagram p28: symbols LP3907TL-JSXS to LP55281TL]

## LP3907TL-JSXS
designator U?
Dual High-Current Step-Down DC/DC and Dual Linear Regulator with I2C Compatible Interface; PartNumber: LP3907TL-JSXS; Manufacturer: National Semiconductor; CompType: Switcher; PackageTopMarking: XYTT*I V012; PowerWise: N; FirstPublished: 4-Dec-2008; DatasheetVersion: Jul-2009; PackageVersion: revD, Dec-2003; PackageReference: TLA25AAA; Publisher: Altium Limited; PackageDescription: Thin Micro SMD, 25 Bump (Large), 0.5mm Pitch; RoHS: Y; PinCount: 25; Code_JEDEC: MO-211-DH; ComponentLink1Description: LP3907 Datasheet; ComponentLink1URL: http://www.national.com/ds/LP/LP3907.pdf; ComponentLink2Description: LP3907 Web Page; ComponentLink2URL: http://www.national.com/pf/LP/LP3907.html; ComponentLink3Description: TLA25AAA Package Drawing; ComponentLink3URL: http://www.national.com/packaging/folders/tla25aaa.html
footprint TLA25AAA (Micro SMD, 25-Leads, Body 2.49x2.49mm, Pitch 0.5mm, NSC Recommended)
pins: A1 VINLDO1 (power), A2 LDO1 (power), A3 ENLDO2 (in), A4 LDO2 (power), A5 VINLDO2 (power), B1 GND_L (power), B2 SCL (in), B3 ENLDO1 (in), B4 VINLDO12 (power), B5 VINLDO12 (power), C1 GND_SW2 (power), C2 SDA (io), C3 nPOR (oc), C4 EN_T (in), C5 GND_SW1 (power), D1 SW2 (power), D2 ENSW2 (in), D3 GND_C (power), D4 ENSW1 (in), D5 SW1 (power), E1 VIN2 (power), E2 FB2 (in), E3 AVDD (power), E4 FB1 (in), E5 VIN1 (power)

## LP3943ISQ
designator U?
RGB/White/Blue 16-LED Fun Light Driver; PartNumber: LP3943ISQ; Manufacturer: National Semiconductor; CompType: Switcher; PackageTopMarking: NS*UZXYTT*3943SQ; PowerWise: Y; FirstPublished: 4-Dec-2008; DatasheetVersion: Nov-2003; PackageVersion: revA, Sep-2003; PackageReference: SQA24C; Publisher: Altium Limited; PackageDescription: LLP, Plastic, Quad, 4 x 4 x 0.8mm Body, 24 Lead, 0.5mm Pitch, No Pullback, Custom; RoHS: Y; PinCount: 24; DigiKeyPartNumber: LP3943ISQCT-ND; Code_JEDEC: MO-220-WGGD-2; ComponentLink1Description: LP3943 Datasheet; ComponentLink1URL: http://www.national.com/ds/LP/LP3943.pdf; ComponentLink2Description: LP3943 Web Page; ComponentLink2URL: http://www.national.com/pf/LP/LP3943.html; ComponentLink3Description: SQA24C Package Drawing; ComponentLink3URL: http://www.national.com/packaging/folders/sqa24c.html
footprint SQA24C (QFN, 24-Leads, Body 4x4mm, Pitch 0.5mm, NSC Recommended)
pins: 1 LED 0 (out), 2 LED 1 (out), 3 LED 2 (out), 4 LED 3 (out), 5 LED 4 (out), 6 LED 5 (out), 7 LED 6 (out), 8 LED 7 (out), 9 GND (power), 10 LED 8 (out), 11 LED 9 (out), 12 LED 10 (out), 13 LED 11 (out), 14 LED 12 (out), 15 LED 13 (out), 16 LED 14 (out), 17 LED 15 (out), 18 ~{RST} (in), 19 SCL (in), 20 SDA (in), 21 VDD (power), 22 A0 (in), 23 A1 (in), 24 A2 (in), 25 DAP (power)

## LP3944ISQ
designator U?
RGB/White/Blue 8-LED Fun Light Driver; PartNumber: LP3944ISQ; Manufacturer: National Semiconductor; CompType: Switcher; PackageTopMarking: NS*UZXYTT*3944SQ; PowerWise: Y; FirstPublished: 4-Dec-2008; DatasheetVersion: Nov-2003; PackageVersion: revB, Aug-2003; PackageReference: SQA24A; Publisher: Altium Limited; PackageDescription: LLP, Plastic, Quad, 4 x 4 x 0.8mm Body, 24 Lead, 0.5mm Pitch, No Pullback; RoHS: Y; PinCount: 24; DigiKeyPartNumber: LP3944ISQCT-ND; Code_JEDEC: MO-220-WGGD-6; ComponentLink1Description: LP3944 Datasheet; ComponentLink1URL: http://www.national.com/ds/LP/LP3944.pdf; ComponentLink2Description: LP3944 Web Page; ComponentLink2URL: http://www.national.com/pf/LP/LP3944.html; ComponentLink3Description: SQA24A Package Drawing; ComponentLink3URL: http://www.national.com/packaging/folders/sqa24a.html
footprint SQA24A (QFN, 24-Leads, Body 4x4mm, Pitch 0.5mm, NSC Recommended)
pins: 1 LED 0 (out), 2 LED 1 (out), 3 LED 2 (out), 4 LED 3 (out), 5 LED 4 (out), 6 LED 5 (out), 7 LED 6 (out), 8 LED 7 (out), 9 GND (power), 10 NC, 11 NC, 12 NC, 13 NC, 14 NC, 15 NC, 16 NC, 17 NC, 18 ~{RST} (in), 19 SCL (in), 20 SDA (in), 21 VDD (power), 22 A0 (in), 23 A1 (in), 24 A2 (in), 25 DAP (power)

## LP3950SL
designator U?
Color LED Driver with Audio Synchronizer; PartNumber: LP3950SL; Manufacturer: National Semiconductor; CompType: Switcher; PackageTopMarking: NSZXYTT*LP3950SL; PowerWise: Y; FirstPublished: 4-Dec-2008; DatasheetVersion: Feb-2005; PackageVersion: revA, Aug-2001; PackageReference: SLD32A; Publisher: Altium Limited; PackageDescription: Thin CSP, Plastic, Laminated, 4.5 x 5.5 x 0.8mm Body, 32 Lead, 0.5mm Pitch; RoHS: Y; PinCount: 32; DigiKeyPartNumber: LP3950SLCT-ND; Code_JEDEC: MO-208-GEEA; ComponentLink1Description: LP3950 Datasheet; ComponentLink1URL: http://www.national.com/ds/LP/LP3950.pdf; ComponentLink2Description: LP3950 Web Page; ComponentLink2URL: http://www.national.com/pf/LP/LP3950.html; ComponentLink3Description: SLD32A Package Drawing; ComponentLink3URL: http://www.national.com/packaging/folders/sld32a.html
footprint SLD32A (PQFN, 32-Leads (9x7 pads), Body 4.5x5.5mm, Pitch 0.5mm, NSC Recommended)
pins: 1 FB (in), 2 GND_BOOST (power), 3 SW (power), 4 VDD2 (power), 5 GND2 (power), 6 DME (in), 7 AMODE (in), 8 VDDA (power), 9 ASE (in), 10 AD1 (in), 11 AD2 (in), 12 GNDA (power), 13 RT (in), 14 VDD1 (power), 15 GND1 (power), 16 VREF, 17 GND3 (power), 18 NRST (in), 19 SS/SDA (io), 20 SO (out), 21 SI (in), 22 SCK/SCL (in), 23 PWM_LED (in), 24 VDDIO (power), 25 IF_SEL (in), 26 B2 (oc), 27 G2 (oc), 28 R2 (oc), 29 GND_RGB (power), 30 R1 (oc), 31 G1 (oc), 32 B1 (oc)

## LP3952RL
designator U?
6-Channel Color LED Driver with Audio Synchronization; PartNumber: LP3952RL; Manufacturer: National Semiconductor; CompType: Switcher; PackageTopMarking: XYTT*I D62B; PowerWise: Y; FirstPublished: 4-Dec-2008; DatasheetVersion: Jul-2007; PackageVersion: Aug-2007; PackageReference: RLA36AAA; Publisher: Altium Limited; PackageDescription: Micro SMDxt, 36 Bump (Large), 0.5mm Pitch; RoHS: Y; PinCount: 36; DigiKeyPartNumber: LP3952RLCT-ND; ComponentLink1Description: LP3952 Datasheet; ComponentLink1URL: http://www.national.com/ds/LP/LP3952.pdf; ComponentLink2Description: LP3952 Web Page; ComponentLink2URL: http://www.national.com/pf/LP/LP3952.html; ComponentLink3Description: RLA36AAA Package Drawing; ComponentLink3URL: http://www.national.com/packaging/folders/rla36aaa.html
footprint RLA36AAA (Micro SMD, 36-Leads, Body 3x3mm, Pitch 0.5mm, NSC Recommended)
pins: A1 VDD2 (power), A2 B2 (out), A3 G2 (out), A4 R2 (out), A5 GND_RGB (power), A6 B1 (out), B1 VDDA (power), B2 GNDT (power), B3 SCL (in), B4 NRST (in), B5 IRGB, B6 G1 (out), C1 VREF, C2 IRT, C3 GND (power), C4 ADDR_SEL (in), C5 SDA (io), C6 R1 (out), D1 GNDA (power), D2 ASE (in), D3 VDD1 (power), D4 PWM (in), D5 VDDIO (power), D6 GND (power), E1 GND (power), E2 GND (power), E3 GND (power), E4 GND (power), E5 GND (power), E6 FB (in), F1 GND (power), F2 GND (power), F3 GND (power), F4 GND (power), F5 GND_SW (power), F6 SW (power)

## LP3958TL
designator U?
Lighting Management Unit with High Voltage Boost Converter; PartNumber: LP3958TL; Manufacturer: National Semiconductor; CompType: Switcher; PackageTopMarking: XYTT*I SJHB; PowerWise: Y; FirstPublished: 4-Dec-2008; DatasheetVersion: Feb-2006; PackageVersion: revD, Dec-2003; PackageReference: TLA25CCA; Publisher: Altium Limited; PackageDescription: Thin Micro SMD, 25 Bump (Large), 0.5mm Pitch; RoHS: Y; PinCount: 25; DigiKeyPartNumber: LP3958TLCT-ND; Code_JEDEC: MO-211-DH; ComponentLink1Description: LP3958 Datasheet; ComponentLink1URL: http://www.national.com/ds/LP/LP3958.pdf; ComponentLink2Description: LP3958 Web Page; ComponentLink2URL: http://www.national.com/pf/LP/LP3958.html; ComponentLink3Description: TLA25CCA Package Drawing; ComponentLink3URL: http://www.national.com/packaging/folders/tla25cca.html
footprint TLA25CCA (Micro SMD, 25-Leads, Body 2.54x2.54mm, Pitch 0.5mm, NSC Recommended)
pins: A1 IRT, A2 GND (power), A3 VDDA (power), A4 SUB (out), A5 MAIN (out), B1 GPIO[1] (io), B2 VREF, B3 VDD1 (power), B4 GNDT (power), B5 GND_WLED (power), C1 GPIO[0]/PWM (io), C2 GPIO[2] (io), C3 SDA (io), C4 VDDIO (power), C5 VDD2 (power), D1 GND_KEY (power), D2 IKEY, D3 SCL (in), D4 NRST (in), D5 GND_SW (power), E1 KEY3 (out), E2 KEY2 (out), E3 KEY1 (out), E4 FB (in), E5 SW (power)

## LP5520TL
designator U?
RGB Backlight LED Driver; PartNumber: LP5520TL; Manufacturer: National Semiconductor; CompType: Switcher; PackageTopMarking: XYTT*I 5520; PowerWise: Y; FirstPublished: 4-Dec-2008; DatasheetVersion: May-2007; PackageVersion: revD, Dec-2003; PackageReference: TLA25EMA; Publisher: Altium Limited; PackageDescription: Thin Micro SMD, 25 Bump (Large), 0.5mm Pitch; RoHS: Y; PinCount: 25; DigiKeyPartNumber: LP5520TLCT-ND; Code_JEDEC: MO-211-DH; ComponentLink1Description: LP5520 Datasheet; ComponentLink1URL: http://www.national.com/ds/LP/LP5520.pdf; ComponentLink2Description: LP5520 Web Page; ComponentLink2URL: http://www.national.com/pf/LP/LP5520.html; ComponentLink3Description: TLA25EMA Package Drawing; ComponentLink3URL: http://www.national.com/packaging/folders/tla25ema.html
footprint TLA25EMA (Micro SMD, 25-Leads, Body 2.77x2.59mm, Pitch 0.5mm, NSC Recommended)
pins: A1 VDDA (power), A2 GNDT (power), A3 S1_IN (in), A4 BOUT (out), A5 GOUT (out), B1 VLDO (power), B2 BRC (in), B3 S2_IN (in), B4 PWMB (in), B5 ROUT (out), C1 VDDIO (power), C2 NRST (in), C3 PWMG (in), C4 GNDA (power), C5 GND_LED (power), D1 SS/SDA (io), D2 SCK/SCL (in), D3 IFSEL (in), D4 PWMR (in), D5 GND_SW (power), E1 SO (out), E2 SI/A0 (in), E3 VDDD (power), E4 FB (in), E5 SW (power)

## LP5521TM
designator U?
Programmable Three Channel LED Driver; PartNumber: LP5521TM; Manufacturer: National Semiconductor; CompType: Switcher; PackageTopMarking: XYTT*I 5521; PowerWise: Y; FirstPublished: 4-Dec-2008; DatasheetVersion: May-2008; PackageVersion: revD, 2008; PackageReference: TMD20ECA; Publisher: Altium Limited; PackageDescription: Thin Micro SMD, 20 Bump, 0.4mm Pitch; RoHS: Y; PinCount: 20; DigiKeyPartNumber: LP5521TMCT-ND; ComponentLink1Description: LP5521 Datasheet; ComponentLink1URL: http://www.national.com/ds/LP/LP5521.pdf; ComponentLink2Description: LP5521 Web Page; ComponentLink2URL: http://www.national.com/pf/LP/LP5521.html; ComponentLink3Description: TMD20ECA Package Drawing; ComponentLink3URL: http://www.national.com/packaging/folders/tmd20eca.html
footprint TMD20ECA (Micro SMD, 20-Leads, Body 2.07x1.72mm, Pitch 0.4mm, NSC Recommended)
pins: A1 B (out), A2 VOUT, A3 CFLY2N, A4 CFLY2P, B1 G (out), B2 ADDR_SEL1 (in), B3 CFLY1N, B4 CFLY1P, C1 R (out), C2 ADDR_SEL0 (in), C3 GND (power), C4 VDD (power), D1 SCL (in), D2 GPO (out), D3 CLK_32K (in), D4 GND (power), E1 SDA (io), E2 EN (in), E3 INT (out), E4 TRIG (io)

## LP5521YQ
designator U?
Programmable Three Channel LED Driver; PartNumber: LP5521YQ; Manufacturer: National Semiconductor; CompType: Switcher; PackageTopMarking: NS*UZXYTT*L5521YQ; PowerWise: Y; FirstPublished: 4-Dec-2008; DatasheetVersion: May-2008; PackageVersion: revB, Jun-2005; PackageReference: YQA24A; Publisher: Altium Limited; PackageDescription: LLP, Plastic, Quad, 5 x 4 x 0.8mm Body, 24 Lead, 0.5mm Pitch; RoHS: Y; PinCount: 24; DigiKeyPartNumber: LP5521YQCT-ND; ComponentLink1Description: LP5521 Datasheet; ComponentLink1URL: http://www.national.com/ds/LP/LP5521.pdf; ComponentLink2Description: LP5521 Web Page; ComponentLink2URL: http://www.national.com/pf/LP/LP5521.html; ComponentLink3Description: YQA24A Package Drawing; ComponentLink3URL: http://www.national.com/packaging/folders/yqa24a.html
footprint YQA24A (PQFN, 24-Leads, Body 4x5mm, Pitch 0.5mm, NSC Recommended)
pins: 1 CFLY2P, 2 CFLY1P, 3 VDD (power), 4 GND (power), 5 CLK_32K (in), 6 INT (out), 7 TRIG (io), 8 NC, 9 NC, 10 NC, 11 NC, 12 NC, 13 SDA (io), 14 EN (in), 15 SCL (in), 16 GPO (out), 17 R (out), 18 G (out), 19 B (out), 20 ADDR_SEL0 (in), 21 ADDR_SEL1 (in), 22 VOUT, 23 CFLY2N, 24 CFLY1N, 25 DAP (power)

## LP5522TM
designator U?
Programmable LED Driver; PartNumber: LP5522TM; Manufacturer: National Semiconductor; CompType: Switcher; PackageTopMarking: XV*I 6; PowerWise: Y; FirstPublished: 4-Dec-2008; DatasheetVersion: Jun-2007; PackageVersion: revB, 2007; PackageReference: TMD06AAA; Publisher: Altium Limited; PackageDescription: Thin Micro SMD, 6 Bump, 0.4mm Pitch; RoHS: Y; PinCount: 6; DigiKeyPartNumber: LP5522TMCT-ND; ComponentLink1Description: LP5522 Datasheet; ComponentLink1URL: http://www.national.com/ds/LP/LP5522.pdf; ComponentLink2Description: LP5522 Web Page; ComponentLink2URL: http://www.national.com/pf/LP/LP5522.html; ComponentLink3Description: TMD06AAA Package Drawing; ComponentLink3URL: http://www.national.com/packaging/folders/tmd06aaa.html
footprint TMD06AAA (Micro SMD, 6-Leads, Body 1.22x0.82mm, Pitch 0.4mm, NSC Recommended)
pins: A1 VDD (power), A2 LED (out), B1 ISET (in), B2 GND (power), C1 CTRL (in), C2 GNDT (power)

## LP5524TM-5
designator U?
Parallel LED Driver with PWM Brightness Control in Micro SMD Package; PartNumber: LP5524TM-5; Manufacturer: National Semiconductor; CompType: Switcher; PackageTopMarking: XV*I V2; PowerWise: N; FirstPublished: 4-Dec-2008; DatasheetVersion: Jul-2007; PackageVersion: revA, May-2005; PackageReference: TMD09AAA; Publisher: Altium Limited; PackageDescription: Thin Micro SMD, 9 Bump, 0.4mm Pitch; RoHS: Y; PinCount: 9; DigiKeyPartNumber: LP5524TM-5CT-ND; ComponentLink1Description: LP5524 Datasheet; ComponentLink1URL: http://www.national.com/ds/LP/LP5524.pdf; ComponentLink2Description: LP5524 Web Page; ComponentLink2URL: http://www.national.com/pf/LP/LP5524.html; ComponentLink3Description: TMD09AAA Package Drawing; ComponentLink3URL: http://www.national.com/packaging/folders/tmd09aaa.html
footprint TMD09AAA (Micro SMD, 9-Leads, Body 1.22x1.22mm, Pitch 0.4mm, NSC Recommended)
pins: A1 ISET (in), A2 ENB (in), A3 ENA (in), B1 D1B (out), B2 VIN (power), B3 D1A (out), C1 D2B (out), C2 GND (power), C3 D2A (out)

## LP5526TL
designator U?
Lighting Management Unit with High Voltage Boost Converter with up to 150mA Serial FLASH LED Driver; PartNumber: LP5526TL; Manufacturer: National Semiconductor; CompType: Switcher; PackageTopMarking: XYTT*I 5526; PowerWise: Y; FirstPublished: 4-Dec-2008; DatasheetVersion: Mar-2006; PackageVersion: revD, Dec-2003; PackageReference: TLA25CCA; Publisher: Altium Limited; PackageDescription: Thin Micro SMD, 25 Bump (Large), 0.5mm Pitch; RoHS: Y; PinCount: 25; DigiKeyPartNumber: LP5526TLCT-ND; Code_JEDEC: MO-211-DH; ComponentLink1Description: LP5526 Datasheet; ComponentLink1URL: http://www.national.com/ds/LP/LP5526.pdf; ComponentLink2Description: LP5526 Web Page; ComponentLink2URL: http://www.national.com/pf/LP/LP5526.html; ComponentLink3Description: TLA25CCA Package Drawing; ComponentLink3URL: http://www.national.com/packaging/folders/tla25cca.html
footprint TLA25CCA (Micro SMD, 25-Leads, Body 2.54x2.54mm, Pitch 0.5mm, NSC Recommended)
pins: A1 IRT, A2 GPIO[1] (io), A3 GPIO[0]/PWM (io), A4 GND_RGB (power), A5 BLED (oc), B1 GND (power), B2 VREF, B3 GPIO[2] (io), B4 IRGB, B5 GLED (oc), C1 VDDA (power), C2 VDD1 (power), C3 SDA (io), C4 SCL (in), C5 RLED (oc), D1 SUB (out), D2 GNDT (power), D3 VDDIO (power), D4 NRST (in), D5 FB (in), E1 MAIN (out), E2 GND_WLED (power), E3 VDD2 (power), E4 GND_SW (power), E5 SW (power)